# Altium footprint library 高通MSM8916 原理图+PCB Layout_QRD8916_2-4-2_half type_main board_V1.01.PcbLib: 113 footprints (part 2 of 8)
Each footprint in its own frame and in the unit in brackets; x right, y up, seen from the top. Pads: shape width x height; smd on the part's side, far side on the other; paste and mask are expansions set on the pad; w line width, h text height; cw(c..) or ccw(c..) is an arc to the next point about the centre after c.
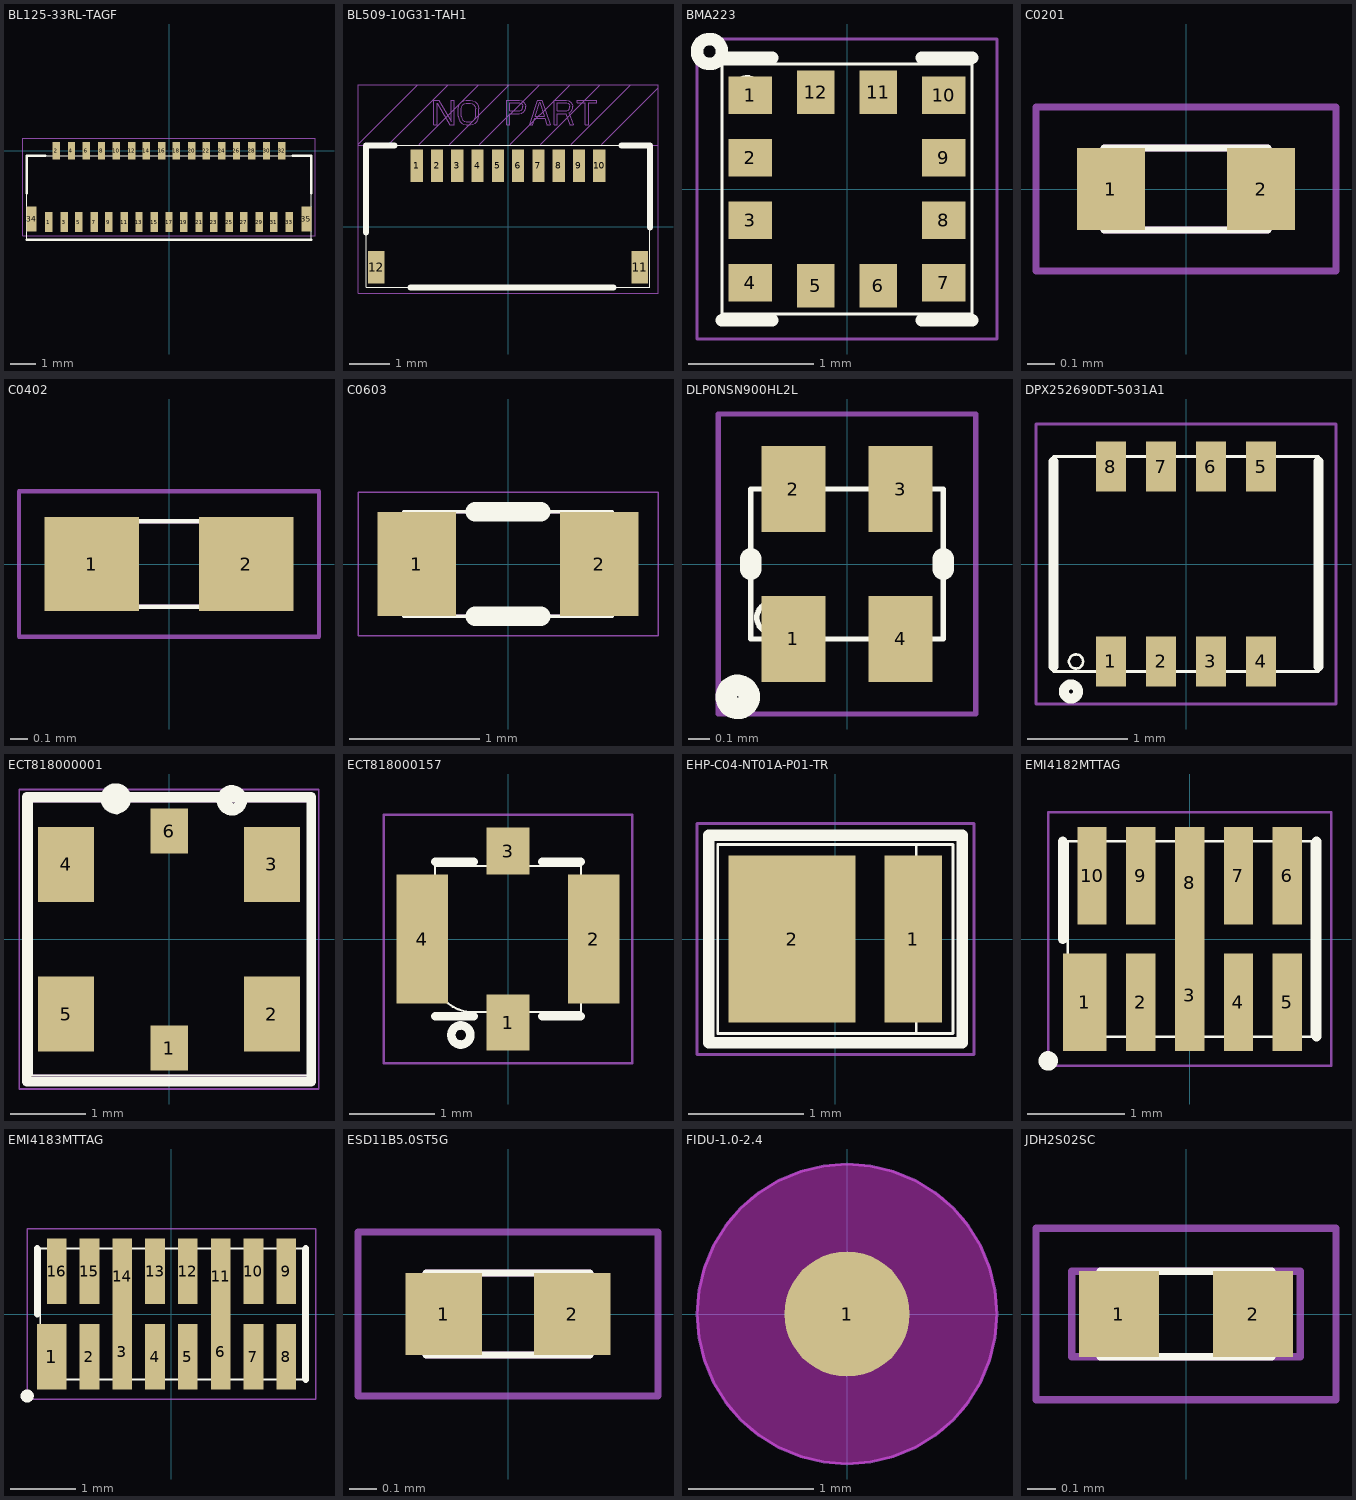
[diagram p1: the footprints below, top view; thin cyan lines are the x and y axes]

## BL125-33RL-TAGF [mm]
height 1
pads (35):
  rect 0.3x0.8 smd paste-0.05 mask+0.05: 1(-4.8,-2.85) 3(-4.2,-2.85) 5(-3.6,-2.85) 7(-3,-2.85) 9(-2.4,-2.85) 11(-1.8,-2.85) 13(-1.2,-2.85) 15(-0.6,-2.85) 17(0,-2.85) 19(0.6,-2.85) 21(1.2,-2.85) 23(1.8,-2.85) 25(2.4,-2.85) 27(3,-2.85) 29(3.6,-2.85) 31(4.2,-2.85) 33(4.8,-2.85)
  rect 0.3x0.7 smd paste-0.05 mask+0.05: 2(-4.5,0) 4(-3.9,0) 6(-3.3,0) 8(-2.7,0) 10(-2.1,0) 12(-1.5,0) 14(-0.9,0) 16(-0.3,0) 18(0.3,0) 20(0.9,0) 22(1.5,0) 24(2.1,0) 26(2.7,0) 28(3.3,0) 30(3.9,0) 32(4.5,0)
  rect 0.4x1 smd paste-0.05 mask+0.05: 34(-5.5,-2.725) 35(5.5,-2.725)
Top Overlay:
  lines w0.025: -5.7,-3.55 5.7,-3.55 5.7,-0.2 -5.7,-0.2 -5.7,-3.55
  lines w0.1: -5.7,-3.55 5.7,-3.55 ; -5.7,-1.7 -5.7,-0.2 -4.95,-0.2 ; 4.95,-0.2 5.7,-0.2 5.7,-1.7
Top Assembly:
  lines w0.025: -5.85,-3.4 -5.85,0.5 5.85,0.5 5.85,-3.4 -5.85,-3.4

## BL509-10G31-TAH1 [mm]
height 1
pads (12):
  rect 0.3x0.8 smd mask+0.05: 1(-2.25,1.5) 2(-1.75,1.5) 3(-1.25,1.5) 4(-0.75,1.5) 5(-0.25,1.5) 6(0.25,1.5) 7(0.75,1.5) 8(1.25,1.5) 9(1.75,1.5) 10(2.25,1.5)
  rect 0.4x0.8 smd mask+0.05: 11(3.25,-1) 12(-3.25,-1)
Top Overlay:
  lines w0.025: -3.5,-1.5 3.5,-1.5 3.5,2 -3.5,2 -3.5,-1.5
  lines w0.15: -3.5,-0.15 -3.5,2 -2.8,2 ; -2.4,-1.5 2.6,-1.5 ; 2.8,2 3.5,2 3.5,-0.025
Top Assembly:
  lines w0.025: -3.7,2 3.7,2 ; -3.691,2.024 -2.22,3.495 ; -2.941,2.024 -1.47,3.495 ; -2.191,2.024 -0.72,3.495 ; -1.441,2.024 0.03,3.495 ; -0.691,2.024 0.78,3.495 ; 0.059,2.024 1.53,3.495 ; 0.809,2.024 2.28,3.495 ; 1.559,2.024 3.03,3.495 ; 2.309,2.024 3.698,3.413 ; -3.7,-1.65 3.7,-1.65 3.7,3.5 -3.7,3.5 -3.7,-1.65 ; -1.826,2.512 -1.751,2.512 -1.751,3.035 -1.439,2.512 -1.326,2.512 -1.326,3.112 -1.401,3.112 -1.401,2.601 -1.714,3.112 -1.826,3.112 -1.826,2.512 ; -1.226,2.716 -1.226,2.908 -1.214,2.972 -1.189,3.023 -1.139,3.074 -1.089,3.099 -1.026,3.112 -0.926,3.112 -0.864,3.099 -0.814,3.074 -0.764,3.023 -0.739,2.972 -0.726,2.908 -0.726,2.716 -0.739,2.652 -0.764,2.601 -0.814,2.55 -0.864,2.525 -0.926,2.512 -1.026,2.512 -1.089,2.525 -1.139,2.55 -1.189,2.601 -1.214,2.652 -1.226,2.716 ; -1.151,2.716 -1.151,2.908 -1.139,2.959 -1.114,2.997 -1.076,3.023 -1.026,3.035 -0.926,3.035 -0.876,3.023 -0.839,2.997 -0.814,2.959 -0.801,2.908 -0.801,2.716 -0.814,2.665 -0.839,2.627 -0.876,2.601 -0.926,2.589 -1.026,2.589 -1.076,2.601 -1.114,2.627 -1.139,2.665 -1.151,2.716 ; -0.026,2.512 0.049,2.512 0.049,2.78 0.274,2.78 0.336,2.793 0.386,2.831 0.424,2.882 0.436,2.92 0.436,2.972 0.424,3.01 0.386,3.061 0.336,3.099 0.274,3.112 -0.026,3.112 -0.026,2.512 ; 0.049,2.857 0.049,3.048 0.286,3.048 0.324,3.035 0.349,3.01 0.361,2.972 0.361,2.933 0.349,2.895 0.324,2.869 0.286,2.857 0.049,2.857 ; 0.536,2.512 0.611,2.512 0.661,2.665 0.911,2.665 0.961,2.512 1.036,2.512 0.836,3.112 0.736,3.112 0.536,2.512 ; 0.674,2.716 0.786,3.061 0.899,2.716 0.674,2.716 ; 1.136,2.512 1.211,2.512 1.211,2.78 1.424,2.78 1.524,2.512 1.611,2.512 1.499,2.806 1.549,2.831 1.586,2.882 1.599,2.92 1.599,2.972 1.586,3.01 1.549,3.061 1.499,3.099 1.436,3.112 1.136,3.112 1.136,2.512 ; 1.211,2.857 1.211,3.048 1.449,3.048 1.486,3.035 1.511,3.01 1.524,2.972 1.524,2.933 1.511,2.895 1.486,2.869 1.449,2.857 1.211,2.857 ; 1.711,3.048 1.711,3.112 2.186,3.112 2.186,3.048 1.986,3.048 1.986,2.512 1.911,2.512 1.911,3.048 1.711,3.048

## BMA223 [mm]
height 1
pads (12):
  rect 0.35x0.3 smd mask+0.05: 1(-0.775,0.75) 2(-0.775,0.25) 3(-0.775,-0.25) 4(-0.775,-0.75) 7(0.775,-0.75) 8(0.775,-0.25) 9(0.775,0.25) 10(0.775,0.75)
  rect 0.3x0.35 smd mask+0.05: 5(-0.25,-0.775) 6(0.25,-0.775) 11(0.25,0.775) 12(-0.25,0.775)
Top Overlay:
  circle w0.025: c-0.8,0.8 r0.1
  circle w0.1: c-1.1,1.1 r0.1
  lines w0.025: -1,-1 1,-1 1,1 -1,1 -1,-1
  lines w0.1: -1,-1.05 -0.6,-1.05 ; -1,1.05 -0.6,1.05 ; 0.6,-1.05 1,-1.05 ; 0.6,1.05 1,1.05
Top Assembly:
  lines w0.025: -1.2,-1.2 1.2,-1.2 1.2,1.2 -1.2,1.2 -1.2,-1.2

## C0201 [mm]
height 0.35
pads (2):
  rect 0.25x0.3 smd mask+0.05: 1(-0.275,0) 2(0.275,0)
Top Overlay:
  lines w0.025: -0.3,-0.15 0.3,-0.15 0.3,0.15 -0.3,0.15 -0.3,-0.15
Top Assembly:
  lines w0.025: -0.55,-0.3 0.55,-0.3 0.55,0.3 -0.55,0.3 -0.55,-0.3
Mechanical 9:
  lines w0.025: -0.3,-0.15 0.3,-0.15 0.3,0.15 -0.3,0.15 -0.3,-0.15

## C0402 [mm]
height 0.65
pads (2):
  rect 0.55x0.55 smd paste-0.05 mask+0.05: 1(-0.45,0) 2(0.45,0)
Top Overlay:
  lines w0.025: -0.5,-0.25 -0.5,0.25 0.5,0.25 0.5,-0.25 -0.5,-0.25
Top Assembly:
  lines w0.025: -0.875,-0.425 0.875,-0.425 0.875,0.425 -0.875,0.425 -0.875,-0.425
Mechanical 9:
  lines w0.025: -0.5,-0.25 -0.5,0.25 0.5,0.25 0.5,-0.25 -0.5,-0.25

## C0603 [mm]
height 1
pads (2):
  rect 0.6x0.8 smd paste-0.05 mask+0.05: 1(-0.7,0) 2(0.7,0)
Top Overlay:
  lines w0.025: -0.8,-0.4 -0.8,0.4 0.8,0.4 0.8,-0.4 -0.8,-0.4
  lines w0.15: -0.25,-0.4 0.25,-0.4 ; -0.25,0.4 0.25,0.4
Top Assembly:
  lines w0.01: -1.15,-0.55 -1.15,0.55 1.15,0.55 1.15,-0.55 -1.15,-0.55
Mechanical 9:
  lines w0.025: -0.8,-0.4 -0.8,0.4 0.8,0.4 0.8,-0.4 -0.8,-0.4

## DLP0NSN900HL2L [mm]
height 0.5
pads (4):
  rect 0.3x0.4 smd mask+0.05: 1(-0.25,-0.35) 2(-0.25,0.35) 3(0.25,0.35) 4(0.25,-0.35)
Top Overlay:
  circle w0.025: c-0.35,-0.25 r0.071
  circle w0.1: c-0.51,-0.62 r0.054
  lines w0.025: -0.45,-0.35 -0.45,0.35 0.45,0.35 0.45,-0.35 -0.45,-0.35
  lines w0.1: -0.45,-0.025 -0.45,0.025 ; 0.45,-0.025 0.45,0.025
Top Assembly:
  lines w0.025: -0.6,-0.7 0.6,-0.7 0.6,0.7 -0.6,0.7 -0.6,-0.7

## DPX252690DT-5031A1 [mm]
height 1
pads (8):
  rect 0.3x0.5 smd mask+0.05: 1(-0.75,-0.975) 2(-0.25,-0.975) 3(0.25,-0.975) 4(0.75,-0.975) 5(0.75,0.975) 6(0.25,0.975) 7(-0.25,0.975) 8(-0.75,0.975)
Top Overlay:
  circle w0.025: c-1.1,-0.975 r0.071
  circle w0.1: c-1.15,-1.275 r0.071
  lines w0.025: -1.325,-1.075 -1.325,1.075 1.325,1.075 1.325,-1.075 -1.325,-1.075
  lines w0.1: -1.325,-1.025 -1.325,1.025 ; 1.325,-1.025 1.325,1.025
Top Assembly:
  lines w0.025: -1.5,-1.4 1.5,-1.4 1.5,1.4 -1.5,1.4 -1.5,-1.4

## ECT818000001 [mm]
height 1.9
pads (6):
  rect 0.5x0.6 smd mask+0.05: 1(0.005,-1.455) 6(0.005,1.445)
  rect 0.75x1 smd paste-0.05 mask+0.05: 2(1.375,-1) 3(1.375,1) 4(-1.375,1) 5(-1.375,-1)
Top Overlay:
  circle w0.152: c-0.71,1.879 r0.127
  circle w0.152: c0.84,1.854 r0.127
  circle w0.025: c-0.7,1.75 r0.071
  circle w0.025: c0.8,1.75 r0.071
  lines w0.025: -1.83,-1.82 1.86,-1.82 1.86,1.84 -1.83,1.84 -1.83,-1.82
  lines w0.127: -1.9,-1.9 1.9,-1.9 1.9,1.9 -1.9,1.9 -1.9,-1.9
Top Assembly:
  lines w0.025: -2,-2 2,-2 2,2 -2,2 -2,-2
Mechanical 9:
  lines w0.025: -1.83,-1.82 1.86,-1.82 1.86,1.84 -1.83,1.84 -1.83,-1.82

## ECT818000157 [mm]
height 0.95
pads (4):
  rect 0.5x0.65 smd mask+0.05: 1(0,-0.975)
  rect 0.6x1.5 smd mask+0.05: 2(1,0) 4(-1,0)
  rect 0.5x0.55 smd mask+0.05: 3(0,1.025)
Top Overlay:
  circle w0.1: c-0.55,-1.12 r0.112
  circle w0.001: c-0.55,-1.12 r0.112
  lines w0.025: -0.85,-0.45 ccw(c-0.425,-0.425) -0.45,-0.85 0.85,-0.85 0.85,0.85 -0.85,0.85 -0.85,-0.45
  lines w0.1: -0.85,-0.9 -0.4,-0.9 ; -0.85,0.9 -0.4,0.9 ; 0.4,-0.9 0.85,-0.9 ; 0.4,0.9 0.85,0.9
Top Assembly:
  lines w0.025: -1.45,-1.45 1.45,-1.45 1.45,1.45 -1.45,1.45 -1.45,-1.45

## EHP-C04-NT01A-P01-TR [mm]
height 0.7
pads (2):
  rect 0.5x1.45 smd paste-0.025 mask+0.05: 1(0.675,0)
  rect 1.1x1.45 smd mask+0.05: 2(-0.375,0)
Top Overlay:
  lines w0.025: 0.7,-0.81 0.7,0.82 ; -1.02,-0.82 1.02,-0.82 1.02,0.82 -1.02,0.82 -1.02,-0.82
  lines w0.1: -1.1,-0.9 1.1,-0.9 1.1,0.9 -1.1,0.9 -1.1,-0.9
Top Paste:
  region: -0.9,0.7 0.15,0.7 0.15,0.175 -0.9,0.175
  region: -0.9,-0.175 0.15,-0.175 0.15,-0.7 -0.9,-0.7
Top Assembly:
  lines w0.025: -1.2,-1 1.2,-1 1.2,1 -1.2,1 -1.2,-1 ; -0.675,-0.3 -0.075,-0.3 -0.075,0.3 -0.675,0.3 -0.675,-0.3

## EMI4182MTTAG [mm]
height 0.8
pads (10):
  rect 0.45x1 smd paste-0.025 mask+0.05: 1(-1.075,-0.65)
  rect 0.3x1 smd mask+0.05: 2(-0.5,-0.65) 4(0.5,-0.65) 5(1,-0.65) 6(1,0.65) 7(0.5,0.65) 9(-0.5,0.65) 10(-1,0.65)
  rect 0.3x1.15 smd mask+0.05: 3(0,-0.575) 8(0,0.575)
Top Overlay:
  circle w0.025: c-1,-0.7 r0.112
  circle w0.1: c-1.45,-1.25 r0.05
  lines w0.025: -1.25,-1 1.25,-1 1.25,1 -1.25,1 -1.25,-1
  lines w0.1: -1.3,0 -1.3,1 ; 1.3,-1 1.3,1
Top Paste:
  region: -0.15,-0.15 0.15,-0.15 0.15,-1.15 -0.15,-1.15
  region: -0.15,1.15 0.15,1.15 0.15,0.15 -0.15,0.15
Top Assembly:
  lines w0.025: -1.45,-1.3 1.45,-1.3 1.45,1.3 -1.45,1.3 -1.45,-1.3

## EMI4183MTTAG [mm]
height 0.8
pads (16):
  rect 0.45x1 smd paste-0.025 mask+0.05: 1(-1.825,-0.65)
  rect 0.3x1 smd mask+0.05: 2(-1.25,-0.65) 4(-0.25,-0.65) 5(0.25,-0.65) 7(1.25,-0.65) 8(1.75,-0.65) 9(1.75,0.65) 10(1.25,0.65) 12(0.25,0.65) 13(-0.25,0.65) 15(-1.25,0.65) 16(-1.75,0.65)
  rect 0.3x1.15 smd mask+0.05: 3(-0.75,-0.575) 6(0.75,-0.575) 11(0.75,0.575) 14(-0.75,0.575)
Top Overlay:
  circle w0.025: c-1.8,-0.75 r0.112
  circle w0.1: c-2.2,-1.25 r0.05
  lines w0.025: -2,-1 2,-1 2,1 -2,1 -2,-1
  lines w0.1: -2.05,0 -2.05,1 ; 2.05,-1 2.05,1
Top Paste:
  region: -0.9,1.15 -0.6,1.15 -0.6,0.15 -0.9,0.15
  region: -0.9,-0.15 -0.6,-0.15 -0.6,-1.15 -0.9,-1.15
  region: 0.6,1.15 0.9,1.15 0.9,0.15 0.6,0.15
  region: 0.6,-0.15 0.9,-0.15 0.9,-1.15 0.6,-1.15
Top Assembly:
  lines w0.025: -2.2,-1.3 2.2,-1.3 2.2,1.3 -2.2,1.3 -2.2,-1.3

## ESD11B5.0ST5G [mm]
height 0.3
pads (2):
  rect 0.28x0.3 smd mask+0.05: 1(-0.235,0) 2(0.235,0)
Top Overlay:
  lines w0.025: -0.3,-0.15 0.3,-0.15 0.3,0.15 -0.3,0.15 -0.3,-0.15
Top Assembly:
  lines w0.025: -0.55,-0.3 0.55,-0.3 0.55,0.3 -0.55,0.3 -0.55,-0.3
Mechanical 9:
  lines w0.025: -0.3,-0.15 0.3,-0.15 0.3,0.15 -0.3,0.15 -0.3,-0.15

## FIDU-1.0-2.4 [mm]
pads (1):
  round 1 smd: 1(0,0)
Top Layer keep-out:
  region: 1.2,0 1.2,0.118 1.154,0.35 1.063,0.568 0.932,0.765 0.765,0.932 0.568,1.063 0.35,1.154 0.118,1.2 0,1.2 -0.118,1.2 -0.35,1.154 -0.568,1.063 -0.765,0.932 -0.932,0.765 -1.063,0.568 -1.154,0.35 -1.2,0.118 -1.2,0 -1.2,-0.118 -1.154,-0.35 -1.063,-0.568 -0.932,-0.765 -0.765,-0.932 -0.568,-1.063 -0.35,-1.154 -0.118,-1.2 0,-1.2 0.118,-1.2 0.35,-1.154 0.568,-1.063 0.765,-0.932 0.932,-0.765 1.063,-0.568 1.154,-0.35 1.2,-0.118
Top Solder:
  region: 1.2,0 1.2,0.118 1.154,0.35 1.063,0.568 0.932,0.765 0.765,0.932 0.568,1.063 0.35,1.154 0.118,1.2 0,1.2 -0.118,1.2 -0.35,1.154 -0.568,1.063 -0.765,0.932 -0.932,0.765 -1.063,0.568 -1.154,0.35 -1.2,0.118 -1.2,0 -1.2,-0.118 -1.154,-0.35 -1.063,-0.568 -0.932,-0.765 -0.765,-0.932 -0.568,-1.063 -0.35,-1.154 -0.118,-1.2 0,-1.2 0.118,-1.2 0.35,-1.154 0.568,-1.063 0.765,-0.932 0.932,-0.765 1.063,-0.568 1.154,-0.35 1.2,-0.118
Mechanical 14:
  circle w0.025: c0,0 r1.2

## JDH2S02SC [mm]
height 0.33
pads (2):
  rect 0.28x0.3 smd mask+0.05: 1(-0.235,0) 2(0.235,0)
Top Overlay:
  lines w0.025: -0.3,-0.15 0.3,-0.15 0.3,0.15 -0.3,0.15 -0.3,-0.15
Top Assembly:
  lines w0.025: -0.525,-0.3 0.525,-0.3 0.525,0.3 -0.525,0.3 -0.525,-0.3
Mechanical 9:
  lines w0.025: -0.3,-0.15 0.3,-0.15 0.3,0.15 -0.3,0.15 -0.3,-0.15
Mechanical 14:
  lines w0.025: -0.4,-0.15 0.4,-0.15 0.4,0.15 -0.4,0.15 -0.4,-0.15